# Altium footprint library MasterLibrary_FP.PcbLib: 14 footprints
Each footprint in its own frame and in the unit in brackets; x right, y up, seen from the top. Pads: shape width x height; smd on the part's side, far side on the other; paste and mask are expansions set on the pad; w line width, h text height; cw(c..) or ccw(c..) is an arc to the next point about the centre after c.
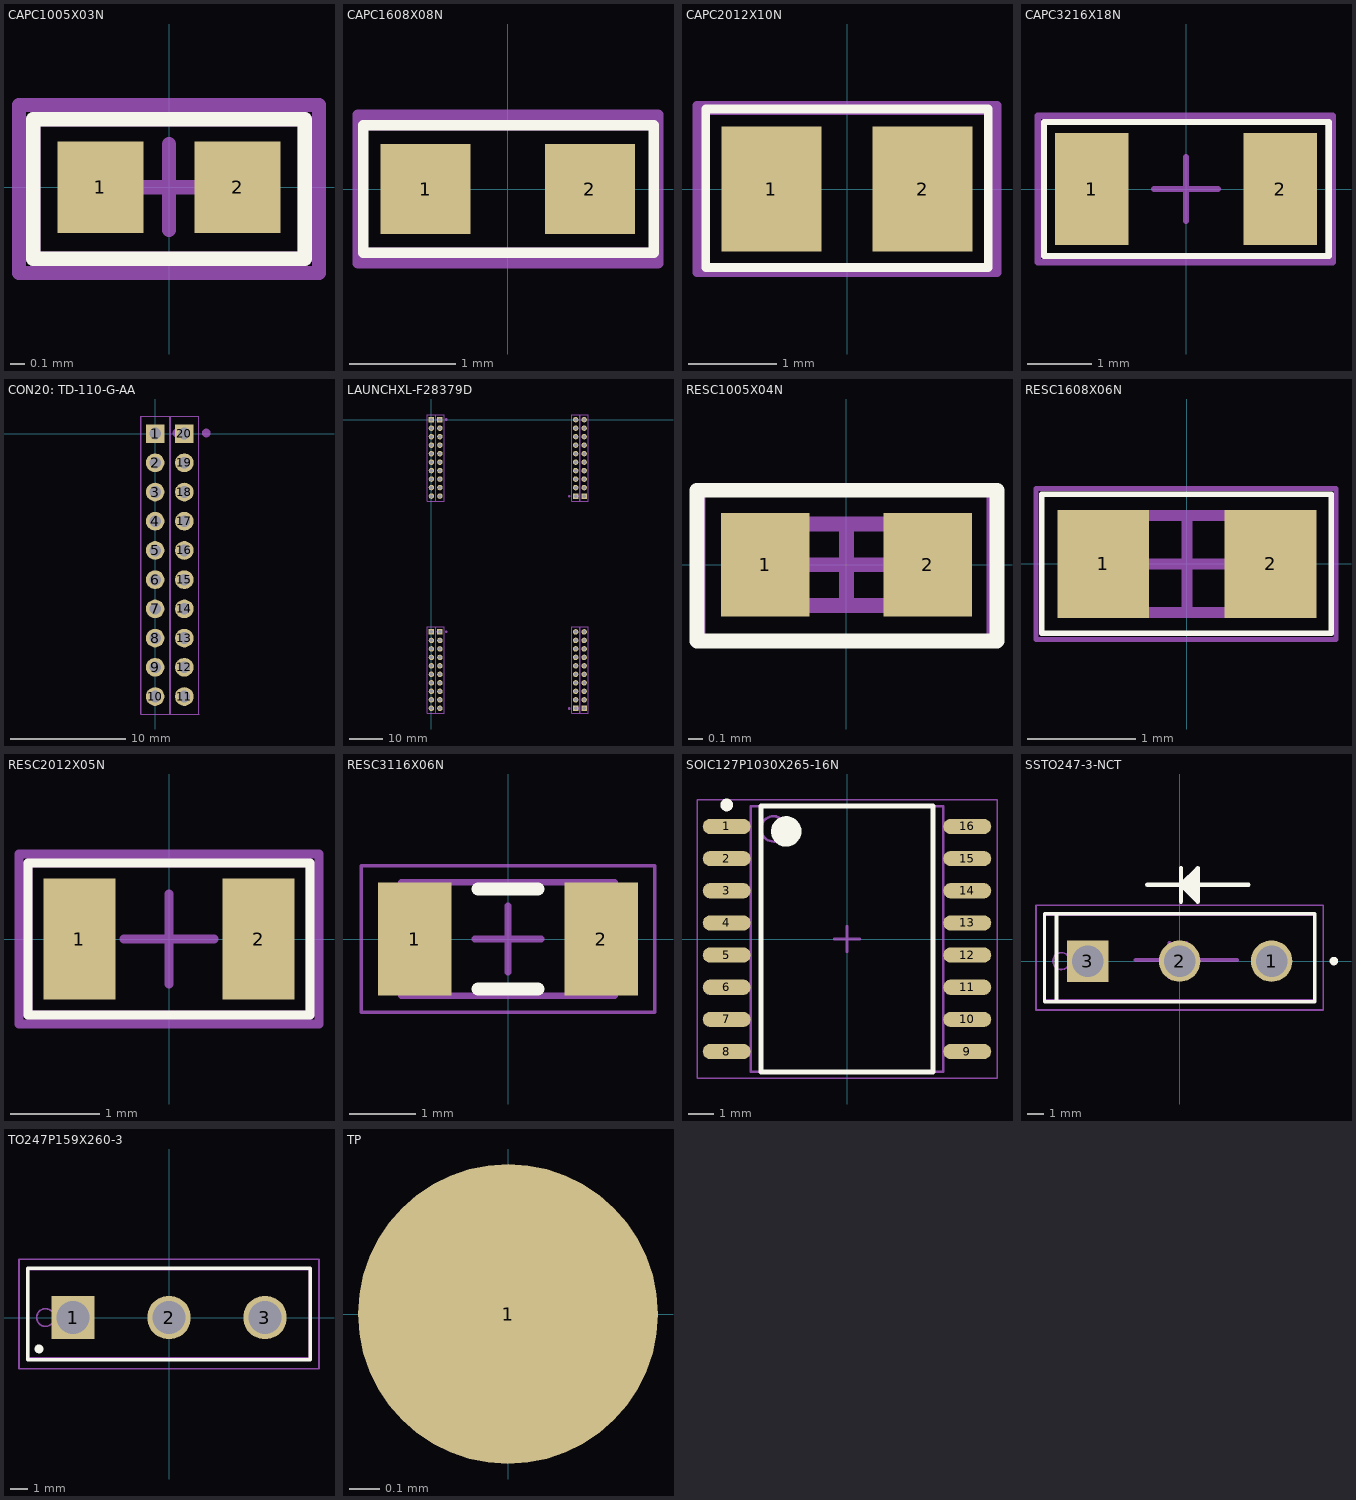
[diagram p0: the footprints below, top view; thin cyan lines are the x and y axes]

## CAPC1005X03N [mm]
pads (2):
  rect 0.6x0.64 smd: 1(-0.48,0) 2(0.48,0)
Top Overlay:
  lines w0.1: -0.95,-0.5 0.95,-0.5 0.95,0.475 -0.95,0.475 -0.95,-0.5
Top Assembly:
  lines w0.1: -0.95,-0.5 -0.95,0.475 0.95,0.475 0.95,-0.5 -0.95,-0.5
  text "'.Designator'" at 0.72,-0.792 h1
Top Courtyard:
  lines w0.1: -0.3,0 0.3,0 ; 0,-0.3 0,0.3 ; -1.05,-0.6 -1.05,0.575 1.05,0.575 1.05,-0.6 -1.05,-0.6
3D body "CAPC1005X03N.step": height 0.3, standoff 0, extent -0.55,-0.3 0.55,0.3

## CAPC1608X08N [mm]
pads (2):
  rect 0.85x0.85 smd: 1(-0.775,0) 2(0.775,0)
Top Overlay:
  lines w0.1: -1.362,-0.6 1.376,-0.6 1.376,0.6 -1.362,0.6 -1.362,-0.6
Top Assembly:
  lines w0.1: -1.397,-0.6 1.39,-0.6 1.39,0.6 -1.397,0.6 -1.397,-0.6
  text ".Designator" at -1.153,0.993 h1
Top Courtyard:
  lines w0.1: -1.412,-0.7 1.417,-0.7 1.417,0.7 -1.412,0.7 -1.412,-0.7
3D body "CAPC1608X08N.step": height 0.8, standoff 0, extent -0.85,-0.4 0.85,0.4

## CAPC2012X10N [mm]
pads (2):
  rect 1.135x1.42 smd: 1(-0.857,0) 2(0.857,0)
Top Overlay:
  lines w0.1: -1.6,-0.889 -1.6,0.905 1.6,0.905 1.6,-0.889 -1.6,-0.889
Top Assembly:
  lines w0.1: -1.6,-0.889 -1.6,0.889 1.6,0.889 1.6,-0.889 -1.6,-0.889
  text ".Designator" at 1.038,0.048 h1
Top Courtyard:
  lines w0.1: -1.7,-0.95 -1.7,0.95 1.7,0.95 1.7,-0.95 -1.7,-0.95
3D body "CAPC2012X10N.step": height 0.95, standoff 0, extent -1.05,-0.65 1.05,0.65

## CAPC3216X18N [mm]
pads (2):
  rect 1.15x1.75 smd: 1(-1.475,0) 2(1.475,0)
Top Overlay:
  lines w0.1: -2.225,-1.05 -2.225,1.05 2.239,1.05 2.239,-1.05 -2.225,-1.05
Top Assembly:
  lines w0.1: -2.225,-1.05 -2.225,1.05 2.225,1.05 2.225,-1.05 -2.225,-1.05
  text ".Designator" at 0.62,0.332 h1
Top Courtyard:
  lines w0.1: -0.5,0 0.5,0 ; 0,-0.5 0,0.5 ; -2.325,-1.15 -2.325,1.15 2.3,1.15 2.3,-1.15 -2.325,-1.15
3D body "CAPC3216X18N.step": height 1.8, standoff 0, extent -1.65,-0.85 1.65,0.85

## CON20: TD-110-G-AA [mm] ".100\" DOUBLE ROW SCREW MACHINE T"
pads (20):
  rect 1.62x1.62 hole 1.02 mask+0.1: 1(0,0) 20(2.54,0)
  round 1.62 hole 1.02 mask+0.1: 2(0,-2.54) 3(0,-5.08) 4(0,-7.62) 5(0,-10.16) 6(0,-12.7) 7(0,-15.24) 8(0,-17.78) 9(0,-20.32) 10(0,-22.86) 11(2.54,-22.86) 12(2.54,-20.32) 13(2.54,-17.78) 14(2.54,-15.24) 15(2.54,-12.7) 16(2.54,-10.16) 17(2.54,-7.62) 18(2.54,-5.08) 19(2.54,-2.54)
Bottom Overlay:
  circle w0.4: c4.572,1.524 r0.18
  circle w0.4: c-2.159,1.524 r0.18
  lines w0.15: -1.25,-24.38 -1.25,1.52 1.25,1.52 1.25,-24.38 -1.25,-24.38 ; 1.29,-24.38 1.29,1.52 3.79,1.52 3.79,-24.38 1.29,-24.38
Mechanical 14:
  circle w0.4: c4.44,0.05 r0.18
  circle w0.4: c1.9,0.05 r0.18
  lines w0.1: -1.25,-24.38 1.25,-24.38 1.25,1.52 -1.25,1.52 -1.25,-24.38 ; 1.29,-24.38 3.79,-24.38 3.79,1.52 1.29,1.52 1.29,-24.38
Mechanical 16:
  lines w0.05: 1.25,-24.38 1.25,1.52 -1.2,1.52 -1.2,-24.38 1.3,-24.38 ; 3.79,-24.38 3.79,1.52 1.34,1.52 1.34,-24.38 3.84,-24.38
3D body "TD-110-G-AA.stp": height 8.29, standoff -3.82, extent -1.143,-24.105 3.937,1.143

## LAUNCHXL-F28379D [mm]
pads (80):
  rect 1.62x1.62 hole 1.02 mask+0.1: 1(0,0) 11(45.72,-22.86) 21(2.54,0) 31(43.18,-22.86) 41(0,-63.5) 51(45.72,-86.36) 61(2.54,-63.5) 71(43.18,-86.36)
  round 1.62 hole 1.02 mask+0.1: 2(0,-2.54) 3(0,-5.08) 4(0,-7.62) 5(0,-10.16) 6(0,-12.7) 7(0,-15.24) 8(0,-17.78) 9(0,-20.32) 10(0,-22.86) 12(45.72,-20.32) 13(45.72,-17.78) 14(45.72,-15.24) 15(45.72,-12.7) 16(45.72,-10.16) 17(45.72,-7.62) 18(45.72,-5.08) 19(45.72,-2.54) 20(45.72,0) 22(2.54,-2.54) 23(2.54,-5.08) 24(2.54,-7.62) 25(2.54,-10.16) 26(2.54,-12.7) 27(2.54,-15.24) 28(2.54,-17.78) 29(2.54,-20.32) 30(2.54,-22.86) 32(43.18,-20.32) 33(43.18,-17.78) 34(43.18,-15.24) 35(43.18,-12.7) 36(43.18,-10.16) 37(43.18,-7.62) 38(43.18,-5.08) 39(43.18,-2.54) 40(43.18,0) 42(0,-66.04) 43(0,-68.58) 44(0,-71.12) 45(0,-73.66) 46(0,-76.2) 47(0,-78.74) 48(0,-81.28) 49(0,-83.82) 50(0,-86.36) 52(45.72,-83.82) 53(45.72,-81.28) 54(45.72,-78.74) 55(45.72,-76.2) 56(45.72,-73.66) 57(45.72,-71.12) 58(45.72,-68.58) 59(45.72,-66.04) 60(45.72,-63.5) 62(2.54,-66.04) 63(2.54,-68.58) 64(2.54,-71.12) 65(2.54,-73.66) 66(2.54,-76.2) 67(2.54,-78.74) 68(2.54,-81.28) 69(2.54,-83.82) 70(2.54,-86.36) 72(43.18,-83.82) 73(43.18,-81.28) 74(43.18,-78.74) 75(43.18,-76.2) 76(43.18,-73.66) 77(43.18,-71.12) 78(43.18,-68.58) 79(43.18,-66.04) 80(43.18,-63.5)
Bottom Overlay:
  circle w0.4: c41.021,-24.384 r0.18
  circle w0.4: c-2.159,1.524 r0.18
  circle w0.4: c48.006,-24.384 r0.18
  circle w0.4: c4.572,1.524 r0.18
  circle w0.4: c-2.159,-61.976 r0.18
  circle w0.4: c4.572,-61.976 r0.18
  circle w0.4: c40.894,-87.884 r0.18
  lines w0.15: -1.25,-87.88 1.25,-87.88 1.25,-61.98 -1.25,-61.98 -1.25,-87.88 ; -1.25,-24.38 1.25,-24.38 1.25,1.52 -1.25,1.52 -1.25,-24.38 ; 1.29,-87.88 3.79,-87.88 3.79,-61.98 1.29,-61.98 1.29,-87.88 ; 1.29,-24.38 3.79,-24.38 3.79,1.52 1.29,1.52 1.29,-24.38 ; 41.93,-87.88 44.43,-87.88 44.43,-61.98 41.93,-61.98 41.93,-87.88 ; 41.93,-24.38 44.43,-24.38 44.43,1.52 41.93,1.52 41.93,-24.38 ; 44.47,-87.88 46.97,-87.88 46.97,-61.98 44.47,-61.98 44.47,-87.88 ; 44.47,-24.38 46.97,-24.38 46.97,1.52 44.47,1.52 44.47,-24.38
  lines w0.4: 48.006,-88.064 cw(c48.006,-87.884) 48.045,-88.06
Top Assembly:
  text ".Designator" at 14.859,-43.561 h1.52
Mechanical 14:
  circle w0.4: c41.28,-22.91 r0.18
  circle w0.4: c1.9,0.05 r0.18
  circle w0.4: c43.82,-22.91 r0.18
  circle w0.4: c4.44,0.05 r0.18
  circle w0.4: c1.9,-63.45 r0.18
  circle w0.4: c43.82,-86.41 r0.18
  circle w0.4: c4.44,-63.45 r0.18
  circle w0.4: c41.28,-86.41 r0.18
  lines w0.1: -1.25,-87.88 -1.25,-61.98 1.25,-61.98 1.25,-87.88 -1.25,-87.88 ; -1.25,-24.38 -1.25,1.52 1.25,1.52 1.25,-24.38 -1.25,-24.38 ; 1.29,-87.88 1.29,-61.98 3.79,-61.98 3.79,-87.88 1.29,-87.88 ; 1.29,-24.38 1.29,1.52 3.79,1.52 3.79,-24.38 1.29,-24.38 ; 41.93,-87.88 41.93,-61.98 44.43,-61.98 44.43,-87.88 41.93,-87.88 ; 41.93,-24.38 41.93,1.52 44.43,1.52 44.43,-24.38 41.93,-24.38 ; 44.47,-87.88 44.47,-61.98 46.97,-61.98 46.97,-87.88 44.47,-87.88 ; 44.47,-24.38 44.47,1.52 46.97,1.52 46.97,-24.38 44.47,-24.38
Mechanical 16:
  lines w0.05: 1.25,-87.88 1.25,-61.98 -1.2,-61.98 -1.2,-87.88 1.3,-87.88 ; 1.25,-24.38 1.25,1.52 -1.2,1.52 -1.2,-24.38 1.3,-24.38 ; 3.79,-87.88 3.79,-61.98 1.34,-61.98 1.34,-87.88 3.84,-87.88 ; 3.79,-24.38 3.79,1.52 1.34,1.52 1.34,-24.38 3.84,-24.38 ; 41.88,-61.98 44.38,-61.98 44.38,-87.88 41.93,-87.88 41.93,-61.98 ; 41.88,1.52 44.38,1.52 44.38,-24.38 41.93,-24.38 41.93,1.52 ; 44.42,-61.98 46.92,-61.98 46.92,-87.88 44.47,-87.88 44.47,-61.98 ; 44.42,1.52 46.92,1.52 46.92,-24.38 44.47,-24.38 44.47,1.52
3D body "LAUNCHXL-F28379D-REV2.0.step": height 16.62, standoff 2.65, extent -6.096,-98.192 52.324,32.66
3D body "TD-110-G-AA.stp": height 8.29, standoff -3.82, extent 42.037,-87.605 47.117,-62.357
3D body "TD-110-G-AA.stp": height 8.29, standoff -3.82, extent 42.037,-24.105 47.117,1.143
3D body "TD-110-G-AA.stp": height 8.29, standoff -3.82, extent -1.143,-87.605 3.937,-62.357
3D body "TD-110-G-AA.stp": height 8.29, standoff -3.82, extent -1.143,-24.105 3.937,1.143

## RESC1005X04N [mm]
pads (2):
  rect 0.6x0.7 smd: 1(-0.55,0) 2(0.55,0)
Top Overlay:
  lines w0.1: -1.011,-0.516 1.018,-0.516 1.018,0.504 -1.011,0.504 -1.011,-0.516
Top Assembly:
  lines w0.1: -0.525,-0.275 -0.525,0.275 0.525,0.275 0.525,-0.275 -0.525,-0.275
  text "'.Designator'" at 0.933,0.997 h1
Top Courtyard:
  lines w0.05: -0.979,-0.505 -0.979,0.527 0.973,0.527 0.973,-0.505 -0.979,-0.505
  lines w0.1: -0.275,0 0.275,0 ; 0,-0.275 0,0.275
3D body "RESC1005X04N.step": height 0.4, standoff 0, extent -0.525,-0.275 0.525,0.275

## RESC1608X06N [mm]
pads (2):
  rect 0.85x1 smd: 1(-0.775,0) 2(0.775,0)
Top Overlay:
  lines w0.05: -1.345,-0.643 1.338,-0.643 1.338,0.646 -1.345,0.646 -1.345,-0.643
Top Assembly:
  lines w0.1: -0.85,-0.45 -0.85,0.45 0.85,0.45 0.85,-0.45 -0.85,-0.45
  text ".Designator" at 0.917,-0.7 h1
Top Courtyard:
  lines w0.05: -1.399,-0.7 -1.399,0.7 1.381,0.7 1.381,-0.7 -1.399,-0.7
  lines w0.1: -0.45,0 0.45,0 ; 0,-0.45 0,0.45
3D body "RESC1608X06N.step": height 0.55, standoff 0, extent -0.85,-0.45 0.85,0.45

## RESC2012X05N [mm]
pads (2):
  rect 0.8x1.35 smd: 1(-1,0) 2(1,0)
Top Overlay:
  lines w0.1: -1.575,-0.85 1.575,-0.85 1.575,0.85 -1.575,0.85 -1.575,-0.85
Top Assembly:
  lines w0.1: -1.575,-0.85 1.575,-0.85 1.575,0.85 -1.575,0.85 -1.575,-0.85
  text ".Designator" at -1.575,-0.85 h1.52
Top Courtyard:
  lines w0.1: -0.5,0 0.5,0 ; 0,-0.5 0,0.5 ; -1.675,-0.95 1.675,-0.95 1.675,0.95 -1.675,0.95 -1.675,-0.95
3D body "RESC2012X05N.step": height 0.5, standoff 0, extent -1.05,-0.675 1.05,0.675

## RESC3116X06N [mm]
pads (2):
  rect 1.1x1.7 smd: 1(-1.4,0) 2(1.4,0)
Top Overlay:
  lines w0.2: -0.45,-0.75 0.45,-0.75 ; -0.45,0.75 0.45,0.75
Top Assembly:
  lines w0.1: -1.6,-0.85 1.6,-0.85 1.6,0.85 -1.6,0.85 -1.6,-0.85
  text "'.Designator'" at -6.985,-0.635 h1.52
Top Courtyard:
  lines w0.05: -2.2,-1.1 2.2,-1.1 2.2,1.1 -2.2,1.1 -2.2,-1.1
  lines w0.1: -0.5,0 0.5,0 ; 0,-0.5 0,0.5
3D body "RESC3116X06N-CT.step": height 0.65, standoff 0, extent -1.6,-0.85 1.6,0.85

## SOIC127P1030X265-16N [mm] "SOIC, 16-Leads, Body 10,30x7,50mm, Pitch 1,27mm, IPC Medium Density"
height 2.65
pads (16):
  oval 1.9x0.6 smd: 1(-4.75,4.445) 2(-4.75,3.175) 3(-4.75,1.905) 4(-4.75,0.635) 5(-4.75,-0.635) 6(-4.75,-1.905) 7(-4.75,-3.175) 8(-4.75,-4.445) 9(4.75,-4.445) 10(4.75,-3.175) 11(4.75,-1.905) 12(4.75,-0.635) 13(4.75,0.635) 14(4.75,1.905) 15(4.75,3.175) 16(4.75,4.445)
Top Overlay:
  circle w0.6: c-2.4,4.25 r0.3
  circle w0.25: c-4.75,5.295 r0.125
  lines w0.2: -3.4,-5.25 3.4,-5.25 3.4,5.25 -3.4,5.25 -3.4,-5.25
Top Assembly:
  circle w0.1: c-2.9,4.35 r0.5
  lines w0.1: -3.8,-5.25 3.8,-5.25 3.8,5.25 -3.8,5.25 -3.8,-5.25
  text ".Designator" at 0.915,-4.572 h1.52
Top Courtyard:
  lines w0.05: -5.925,-5.5 5.925,-5.5 5.925,5.5 -5.925,5.5 -5.925,-5.5
  lines w0.1: -0.5,0 0.5,0 ; 0,-0.5 0,0.5
3D body "DW0016B.stp": height 2.59, standoff 0, extent -5.167,-5.15 5.167,5.15

## SSTO247-3-NCT [mm]
height 26
pads (3):
  round 2.46 hole 1.86 paste-2539.97 mask+0: 1(5.44,0) 2(0,0)
  rect 2.46x2.46 hole 1.86 paste-2539.97 mask+0: 3(-5.44,0)
Top Overlay:
  circle w0.25: c9.13,0 r0.125
  region: 1.081,5.513 0.081,4.513 1.081,3.513
  lines w0.2: -8,-2.4 8,-2.4 8,2.8 -8,2.8 -8,-2.4
  lines w0.254: -7.284,-2.398 -7.284,2.681 ; -1.919,4.513 4.081,4.513 ; 0.081,3.513 0.081,5.513 ; 0.081,4.513 0.081,4.513 ; 0.081,4.513 1.081,5.513 1.081,3.513 0.081,4.513
Top Assembly:
  circle w0.1: c-7,0 r0.5
  region: 0.395,1.068 -0.605,0.068 0.395,-0.932
  lines w0.1: -7.95,-2.282 -7.95,2.718 7.95,2.718 7.95,-2.282 -7.95,-2.282
  lines w0.254: -2.605,0.068 3.395,0.068 ; -0.605,-0.932 -0.605,1.068 ; -0.605,0.068 -0.605,0.068 ; -0.605,0.068 0.395,1.068 0.395,-0.932 -0.605,0.068
  text ".Designator" at 1.168,1.194 h1.2
Top Courtyard:
  lines w0.1: -0.5,0 0.5,0 ; 0,-0.5 0,0.5 ; -8.5,-2.9 8.5,-2.9 8.5,3.3 -8.5,3.3 -8.5,-2.9
3D body "AIDW10S65C5.STEP": height 26, standoff -15.9, extent -7.95,-2.232 7.95,2.768

## TO247P159X260-3 [mm] "TO247"
height 26
pads (3):
  rect 2.46x2.46 hole 1.86 paste-2539.97 mask+0: 1(-5.44,0)
  round 2.46 hole 1.86 paste-2539.97 mask+0: 2(0,0) 3(5.44,0)
Top Overlay:
  circle w0.25: c-7.366,-1.778 r0.125
  lines w0.2: -8,-2.4 8,-2.4 8,2.8 -8,2.8 -8,-2.4
Top Assembly:
  circle w0.1: c-7,0 r0.5
  lines w0.1: -7.95,-2.282 -7.95,2.718 7.95,2.718 7.95,-2.282 -7.95,-2.282
  text ".Designator" at 0,0 h1.2
Top Courtyard:
  lines w0.1: -0.5,0 0.5,0 ; 0,-0.5 0,0.5 ; -8.5,-2.9 8.5,-2.9 8.5,3.3 -8.5,3.3 -8.5,-2.9
3D body "AIDW10S65C5.STEP": height 26, standoff -15.9, extent -7.95,-2.232 7.95,2.768

## TP [mm]
pads (1):
  round 1 smd paste-1: 1(0,0)